# EAGLE library part MA07-2_ALT (library PI-REPEATER-M2SC REV 01)
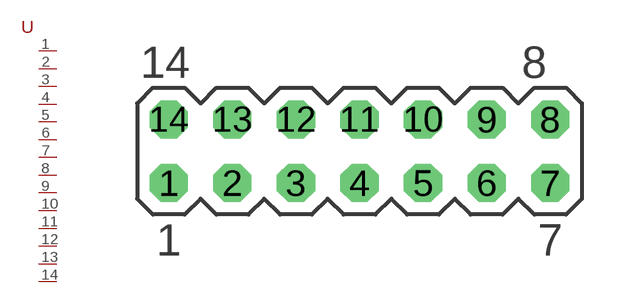
[diagram p4: symbol with the pads of MA07-2_ALT; footprint MA07-2_ALT]

Designator prefix -

## MA07-2_ALT  [MA07-2_ALT]
1  1
2  2
3  3
4  4
5  5
6  6
7  7
8  8
9  9
10  10
11  11
12  12
13  13
14  14

## Footprint MA07-2_ALT (pad centres in mm)
drill 1.016 octagon: 1 -7.62,-1.27; 2 -5.08,-1.27; 3 -2.54,-1.27; 4 0,-1.27; 5 2.54,-1.27; 6 5.08,-1.27; 7 7.62,-1.27; 8 7.62,1.27; 9 5.08,1.27; 10 2.54,1.27; 11 0,1.27; 12 -2.54,1.27; 13 -5.08,1.27; 14 -7.62,1.27